# EAGLE library part PARALLEL_ONBOARD (library F030NG)
2x13 2mm pitch pinheader
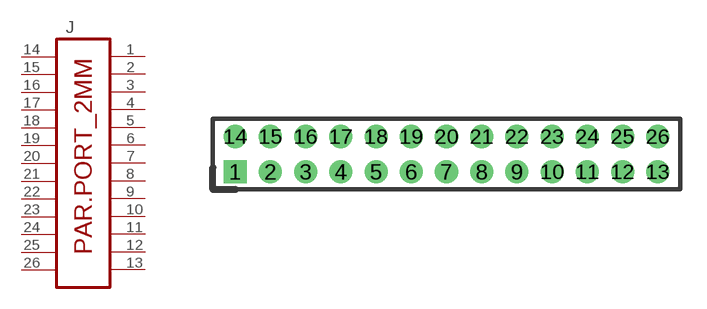
[diagram p83: symbol with the pads of PH_2X13_2MM_PP; footprint PH_2X13_2MM_PP]

Designator prefix J

## PARALLEL_ONBOARDPP  [PH_2X13_2MM_PP]
1  1  pas
2  2  pas
3  3  pas
4  4  pas
5  5  pas
6  6  pas
7  7  pas
8  8  pas
9  9  pas
10  10  pas
11  11  pas
12  12  pas
13  13  pas
14  14  pas
15  15  pas
16  16  pas
17  17  pas
18  18  pas
19  19  pas
20  20  pas
21  21  pas
22  22  pas
23  23  pas
24  24  pas
25  25  pas
26  26  pas

## Footprint PH_2X13_2MM_PP (pad centres in mm)
PIN HEADER
drill 0.8 pad 1.27 square: 1 -0.09,-0.095
drill 0.8 pad 1.27: 2 1.91,-0.095; 3 3.91,-0.095; 4 5.91,-0.095; 5 7.91,-0.095; 6 9.91,-0.095; 7 11.91,-0.095; 8 13.91,-0.095; 9 15.91,-0.095; 10 17.91,-0.095; 11 19.91,-0.095; 12 21.91,-0.095; 13 23.91,-0.095; 14 -0.09,1.905; 15 1.91,1.905; 16 3.91,1.905; 17 5.91,1.905; 18 7.91,1.905; 19 9.91,1.905; 20 11.91,1.905; 21 13.91,1.905; 22 15.91,1.905; 23 17.91,1.905; 24 19.91,1.905; 25 21.91,1.905; 26 23.91,1.905